# Altium footprint library Display.PcbLib: 1 footprints
Each footprint in its own frame and in the unit in brackets; x right, y up, seen from the top. Pads: shape width x height; smd on the part's side, far side on the other; paste and mask are expansions set on the pad; w line width, h text height; cw(c..) or ccw(c..) is an arc to the next point about the centre after c.
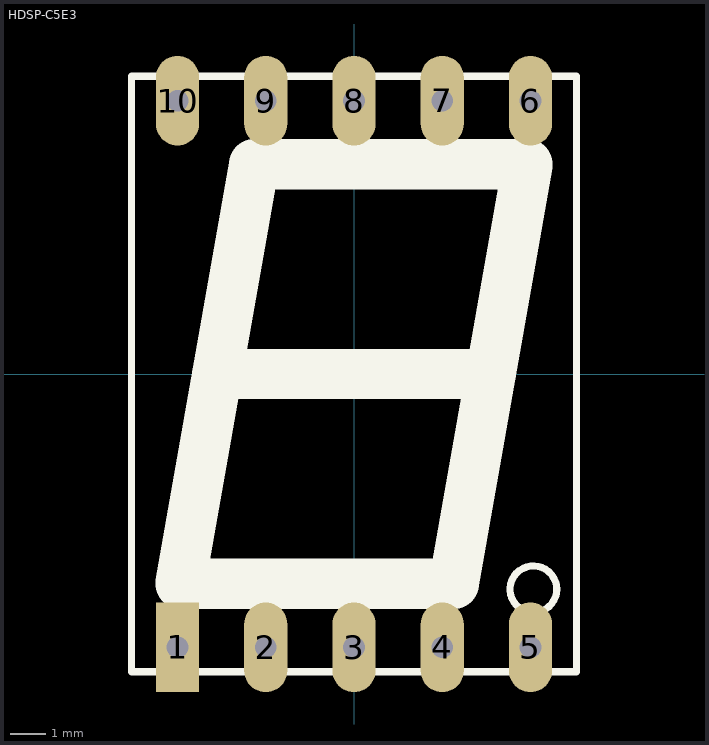
[diagram p0: the footprint, top view; thin cyan lines are the x and y axes]

## HDSP-C5E3 [mm]
pads (10):
  rect 1.2x2.5 hole 0.6: 1(-4.92,-7.62)
  oval 1.2x2.5 hole 0.6: 2(-2.46,-7.62) 3(0,-7.62) 4(2.46,-7.62) 5(4.92,-7.62) 6(4.92,7.62) 7(2.46,7.62) 8(0,7.62) 9(-2.46,7.62) 10(-4.92,7.62)
Top Overlay:
  circle w0.2: c5,-6 r0.65
  lines w0.2: -6.2,-8.3 6.2,-8.3 6.2,8.3 -6.2,8.3 -6.2,-8.3
  lines w1.4: -3.81,0 3.81,0 ; -3.81,0 -2.78,5.85 4.84,5.85 3.81,0 ; -3.81,0 -4.84,-5.85 2.78,-5.85 3.81,0
3D body: height 6.91, standoff 0, extent -4.841,-5.851 4.841,5.851
3D body: height 6.91, standoff 0, extent 4.345,-6.655 5.655,-5.345
3D body: height 6.9, standoff 0, extent -6.3,-8.4 6.3,8.4